# EAGLE library part MICRO_MAG3 (library SHC)
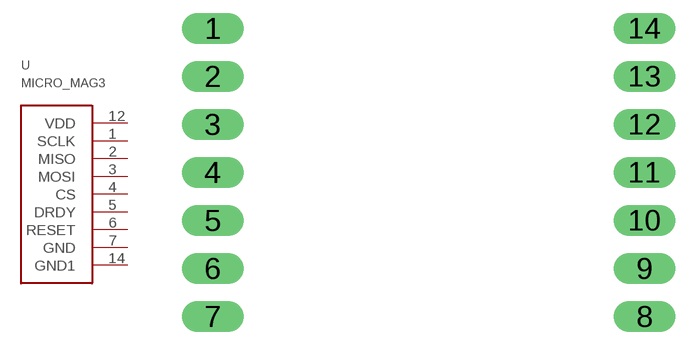
[diagram p9: symbol with the pads of MICRO_MAG3; footprint MICRO_MAG3]

Designator prefix -

## MICRO_MAG3  [MICRO_MAG3]
1  SCLK
2  MISO
3  MOSI
4  CS
5  DRDY
6  RESET
7  GND
12  VDD
14  GND1

## Footprint MICRO_MAG3 (pad centres in mm)
drill 1.1 long: 1 -10.16,7.62; 2 -10.16,5.08; 3 -10.16,2.54; 4 -10.16,0; 5 -10.16,-2.54; 6 -10.16,-5.08; 7 -10.16,-7.62; 8 12.7,-7.62; 9 12.7,-5.08; 10 12.7,-2.54; 11 12.7,0; 12 12.7,2.54; 13 12.7,5.08; 14 12.7,7.62